# Altium footprint library SG__PCB_TO.PcbLib: 7 footprints
Each footprint in its own frame and in the unit in brackets; x right, y up, seen from the top. Pads: shape width x height; smd on the part's side, far side on the other; paste and mask are expansions set on the pad; w line width, h text height; cw(c..) or ccw(c..) is an arc to the next point about the centre after c.
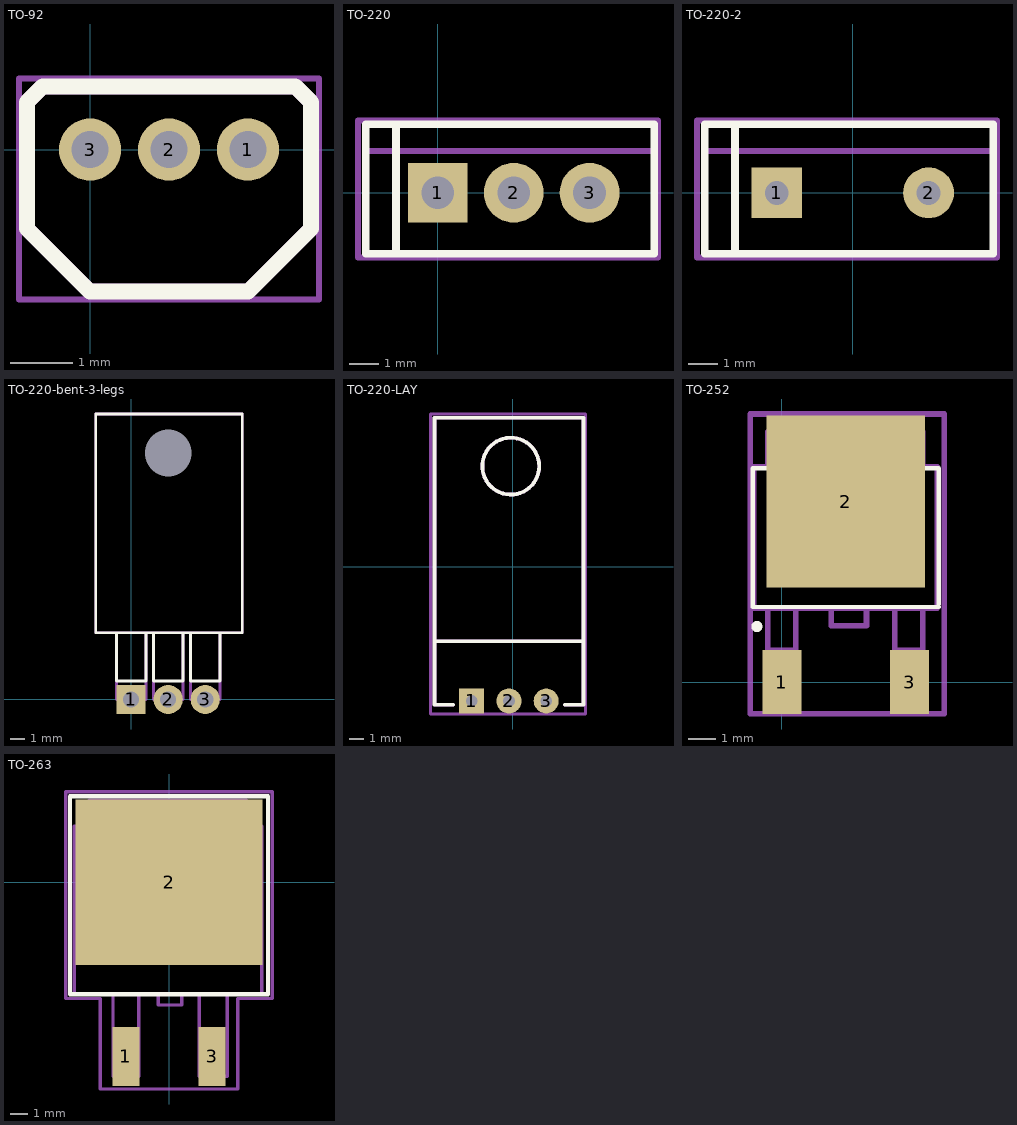
[diagram p0: the footprints below, top view; thin cyan lines are the x and y axes]

## TO-92 [mm]
pads (3):
  round 1 hole 0.6: 1(2.54,0) 2(1.27,0) 3(0,0)
Top Overlay:
  lines w0.254: -1.016,-1.27 0,-2.286 2.54,-2.286 3.556,-1.27 3.556,0.762 3.302,1.016 -0.762,1.016 -1.016,0.762 -1.016,-1.27
Top Assembly:
  lines w0.254: -1.016,-1.27 -1.016,0.762 -0.762,1.016 3.302,1.016 3.556,0.762 3.556,-1.27 2.54,-2.286 0,-2.286 -1.016,-1.27
Top Courtyard:
  lines w0.1: -1.143,-2.413 3.683,-2.413 3.683,1.143 -1.143,1.143 -1.143,-2.413
3D body "TO-92B.step": height 6.08, standoff -2.38, extent -1.016,-2.413 3.556,0.889

## TO-220 [mm]
pads (3):
  rect 2x2 hole 1.1: 1(0,0)
  round 2 hole 1.1: 2(2.54,0) 3(5.08,0)
Top Overlay:
  lines w0.254: -1.397,-2.032 7.239,-2.032 7.239,2.286 -1.397,2.286 ; -1.397,-2.032 -1.397,2.286 ; -1.397,-2.032 -2.413,-2.032 -2.413,2.286 -1.397,2.286
Top Assembly:
  lines w0.2: -2.413,1.397 7.239,1.397 ; -2.413,-2.032 -2.413,2.286 7.239,2.286 7.239,-2.032 -2.413,-2.032
Top Courtyard:
  lines w0.2: -2.667,-2.159 -2.667,2.413 7.366,2.413 7.366,-2.159 -2.667,-2.159
3D body "TO-220-1.step": height 26.8, standoff -1.98, extent -2.402,-2.088 7.498,2.412

## TO-220-2 [mm]
pads (2):
  rect 1.7x1.7 hole 0.8: 1(-2.54,0)
  round 1.7 hole 0.8: 2(2.54,0)
Top Overlay:
  lines w0.254: -3.937,-2.032 -4.953,-2.032 -4.953,2.286 -3.937,2.286 ; -3.937,-2.032 -3.937,2.286 ; -3.937,-2.032 4.699,-2.032 4.699,2.286 -3.937,2.286
Top Assembly:
  lines w0.2: -4.953,1.397 4.699,1.397 ; -4.953,-2.032 4.699,-2.032 4.699,2.286 -4.953,2.286 -4.953,-2.032
Top Courtyard:
  lines w0.2: -5.207,-2.159 4.826,-2.159 4.826,2.413 -5.207,2.413 -5.207,-2.159
3D body "TO 220-2.step": height 24.3, standoff -4.08, extent -4.826,-2.214 4.826,2.286

## TO-220-bent-3-legs [mm]
pads (4):
  round 0 hole 3.2 unplated: 0(2.54,16.891)
  rect 2x2 hole 1.1: 1(0,0)
  round 2 hole 1.1: 2(2.54,0) 3(5.08,0)
Top Overlay:
  lines w0.2: -2.429,4.572 -2.429,19.57 7.62,19.57 7.62,4.572 -2.429,4.572 ; -1.016,1.27 -1.016,4.572 1.016,4.572 1.016,1.27 -1.016,1.27 ; 1.524,1.27 3.556,1.27 3.556,4.572 1.524,4.572 1.524,1.27 ; 4.064,1.27 4.064,4.572 6.096,4.572 6.096,1.27 4.064,1.27
Top Assembly:
  lines w0.2: -2.429,4.572 -2.429,19.57 7.62,19.57 7.62,4.572 -2.429,4.572 ; -1.016,0 -1.016,4.572 1.016,4.572 1.016,0 -1.016,0 ; 1.524,0 1.524,4.572 3.556,4.572 3.556,0 1.524,0 ; 4.064,0 4.064,4.572 6.096,4.572 6.096,0 4.064,0
3D body "User Library-TO220 L.step": height 4.7, standoff -2.8, extent -2.429,-0.134 7.571,19.57

## TO-220-LAY [mm]
pads (3):
  rect 1.7x1.7 hole 0.8: 1(-2.794,-9.144)
  round 1.7 hole 0.8: 2(-0.254,-9.144) 3(2.286,-9.144)
Top Overlay:
  circle w0.254: c-0.127,6.858 r1.939
  lines w0.254: -5.334,-5.08 4.826,-5.08 ; -4.064,-9.398 -5.334,-9.398 -5.334,10.16 4.826,10.16 4.826,-9.398 3.556,-9.398
Top Assembly:
  circle w0.254: c-0.127,6.858 r1.939
  lines w0.254: -5.334,-5.08 4.826,-5.08 ; -4.064,-9.398 -5.334,-9.398 -5.334,10.16 4.826,10.16 4.826,-9.398 3.556,-9.398
Top Courtyard:
  lines w0.2: -5.588,-10.033 4.953,-10.033 4.953,10.414 -5.588,10.414 -5.588,-10.033
3D body "TO-220.step": height 5.2, standoff -2, extent -5.334,-9.491 4.826,9.999

## TO-252 [mm]
pads (3):
  rect 1.4x2.3 smd mask+0.05: 1(0,0) 3(4.6,0)
  rect 5.7x6.2 smd mask+0.05: 2(2.3,6.5)
Top Overlay:
  circle w0.2: c-0.9,2 r0.1
  lines w0.15: -1.05,2.7 5.65,2.7 ; -1.05,2.75 -1.05,7.65 ; -1.05,7.7 5.65,7.7 5.65,2.8
Top Assembly:
  lines w0.2: -0.508,2.667 -0.508,1.143 0.508,1.143 0.508,2.667 ; -0.508,7.747 -0.508,9.017 5.08,9.017 5.08,7.747 ; 1.778,2.667 1.778,2.032 3.048,2.032 3.048,2.667 ; 4.064,2.667 4.064,1.143 5.08,1.143 5.08,2.667 ; -1.016,2.667 5.588,2.667 5.588,7.747 -1.016,7.747 -1.016,2.667
Top Courtyard:
  lines w0.2: -1.143,-1.143 5.842,-1.143 5.842,9.652 -1.143,9.652 -1.143,-1.143
3D body "to-252.stp": height 2.3, standoff -0.01, extent -0.992,-0.786 5.588,8.914

## TO-263 [mm]
pads (3):
  rect 1.6x3.5 smd: 1(-2.54,-10.275) 3(2.54,-10.275)
  rect 11x9.75 smd: 2(0,0)
Top Overlay:
  lines w0.254: -5.842,-6.604 5.842,-6.604 5.842,5.08 -5.842,5.08 -5.842,-6.604
Top Assembly:
  lines w0.2: -5.524,3.302 5.461,3.302 5.461,-6.604 -5.588,-6.604 -5.588,3.302 -5.461,3.302 ; -4.445,3.302 -4.699,3.302 -4.699,4.826 4.572,4.826 4.572,3.302 ; -3.302,-6.604 -3.302,-11.43 -1.778,-11.43 -1.778,-6.604 ; -0.635,-6.604 -0.635,-7.239 0.762,-7.239 0.762,-6.604 ; 1.778,-6.604 1.778,-11.43 3.429,-11.43 3.429,-6.604
Top Courtyard:
  lines w0.2: -6.096,-6.858 -4.064,-6.858 -4.064,-12.192 4.064,-12.192 4.064,-6.858 6.096,-6.858 6.096,5.334 -6.096,5.334 -6.096,5.08 -6.096,-6.858
3D body "TO263-3S.STEP": height 4.78, standoff -0.02, extent -5,-11.34 5,4.33